# EAGLE library part DB15F/90 (library connect)
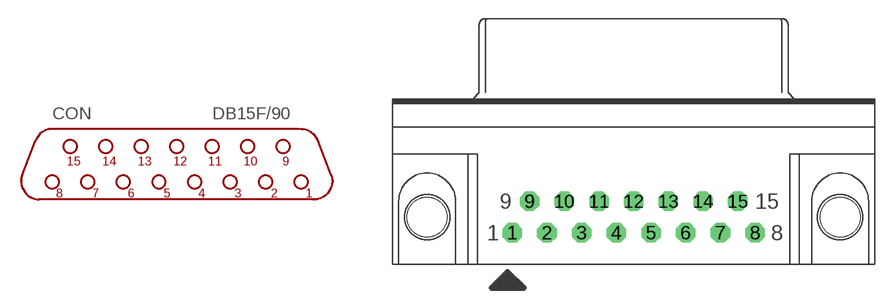
[diagram p5: symbol with the pads of D-15F/90; footprint D-15F/90]

Designator prefix CON

## DB15F/90  [D-15F/90]
1  1  pas
2  2  pas
3  3  pas
4  4  pas
5  5  pas
6  6  pas
7  7  pas
8  8  pas
9  9  pas
10  10  pas
11  11  pas
12  12  pas
13  13  pas
14  14  pas
15  15  pas

## Footprint D-15F/90 (pad centres in mm)
drill 1.016 pad 1.575 octagon: 1 -9.779,-1.27; 2 -6.985,-1.27; 3 -4.191,-1.27; 4 -1.397,-1.27; 5 1.397,-1.27; 6 4.191,-1.27; 7 6.985,-1.27; 8 9.779,-1.27; 9 -8.382,1.27; 10 -5.588,1.27; 11 -2.794,1.27; 12 0,1.27; 13 2.794,1.27; 14 5.588,1.27; 15 8.382,1.27
hole 3.2 at 16.637,0
hole 3.2 at -16.637,0